# Altium schematic symbol library Chip Capacitor.SchLib: 6 symbols
Pins are listed as number, name and electrical type; pins without a type are passive.

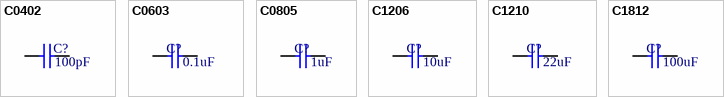
[diagram p0: symbols C0402 to C1812]

## C0402
designator C?  value 100pF  (hidden comment: C0402)
0402 Ceramic Chip Capacitor - Standard
simulation model CAP (Capacitor)
signal-integrity model C0402
footprint 0402cap (Chip Capacitor; Body 1.0 x 0.5 mm (LxW typ))
pins: 1, 2

## C0603
designator C?  value 0.1uF  (hidden comment: C0603)
0603 Ceramic Chip Capacitor - Standard
simulation model CAP (Capacitor)
signal-integrity model C0603
footprint 0603CAP (Chip Capacitor; Body 1.6 x 0.8 mm (LxW typ))
pins: 1, 2

## C0805
designator C?  value 1uF  (hidden comment: C0805)
0805 Ceramic Chip Capacitor - Standard
simulation model CAP (Capacitor)
signal-integrity model C0805
footprint 0805CAP (Chip Capacitor; Body 2.0 x 1.2 mm (LxW typ))
pins: 1, 2

## C1206
designator C?  value 10uF  (hidden comment: C1206)
1206 Ceramic Chip Capacitor - Standard
simulation model CAP (Capacitor)
signal-integrity model C1206
footprint 1206CAP (Chip Capacitor; Body 3.2 x 1.6 mm (LxW typ))
pins: 1, 2

## C1210
designator C?  value 22uF  (hidden comment: C1210)
1210 Ceramic Chip Capacitor - Standard
simulation model CAP (Capacitor)
footprint 1210CAP (Chip Capacitor; Body 3.2 x 2.5 mm (LxW typ))
pins: 1, 2

## C1812
designator C?  value 100uF  (hidden comment: C1812)
1812 Ceramic Chip Capacitor - Standard
simulation model CAP (Capacitor)
footprint 1812 (Chip Capacitor; Body 4.5 x 3.2 mm (LxW typ))
pins: 1, 2